# Altium schematic symbol library oled_model.SchLib: 3 symbols
Pins are listed as number, name and electrical type; pins without a type are passive.

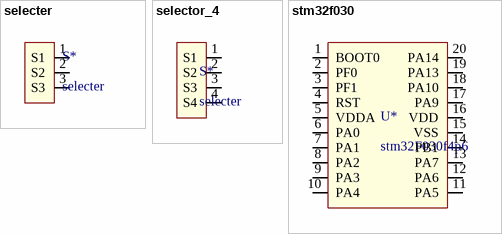
[diagram p0: symbols selecter to stm32f030]

## selecter
designator S*
footprint selecter_3
pins: 1 S1, 2 S2, 3 S3

## selector_4
designator S*, comment selecter
footprint selector_4
pins: 1 S1, 2 S2, 3 S3, 4 S4

## stm32f030
designator U*, comment stm32F030f4p6
footprint TSSOP20_N (6.5*6.4*1（长宽高）)
pins: 1 BOOT0, 2 PF0, 3 PF1, 4 RST, 5 VDDA, 6 PA0, 7 PA1, 8 PA2, 9 PA3, 10 PA4, 11 PA5, 12 PA6, 13 PA7, 14 PB1, 15 VSS, 16 VDD, 17 PA9, 18 PA10, 19 PA13, 20 PA14